# Altium schematic symbol library MF_IC_Power.SCHLIB: 7 symbols
Pins are listed as number, name and electrical type; pins without a type are passive.

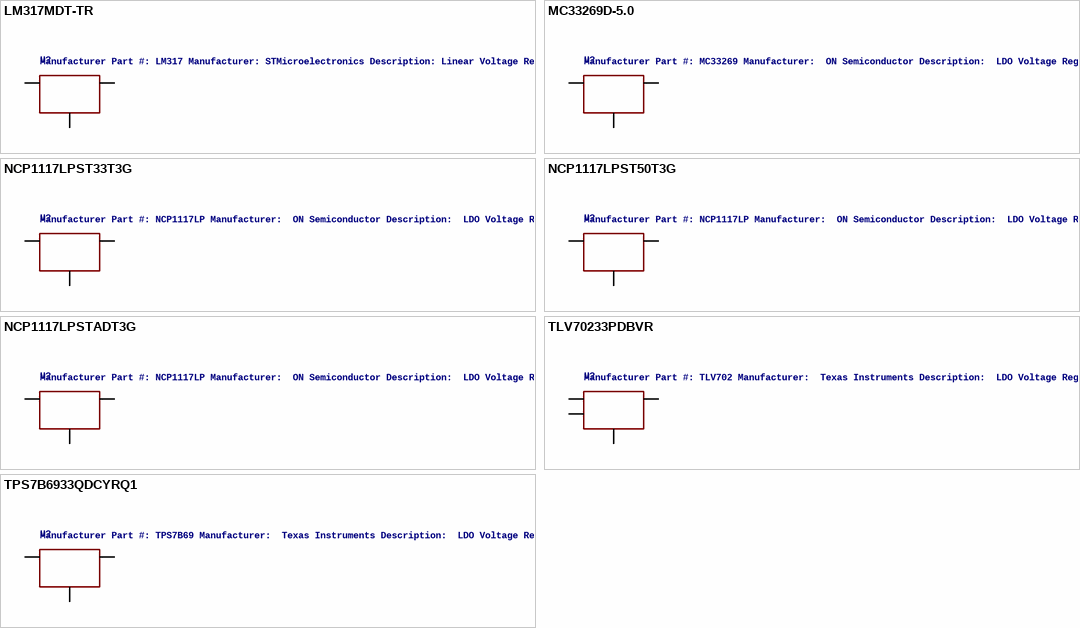
[diagram p0: symbols LM317MDT-TR to TPS7B6933QDCYRQ1]

## LM317MDT-TR
designator U?, comment Manufacturer Part #: LM317 Manufacturer: STMicroelectronics Description: Linear Voltage Regulators 1.2-37V Adj Positive
HOUSEPART: NO; MPN: LM317MDT-TR; GateName_1: G$1; SymbolName_1: VOLTAGE_REGULATOR; DeviceName: MDT-TR; POPULATE: 1; LibraryName: MF_IC_Power; DeviceSetName: LM317; URL: http://www.st.com/content/ccc/resource/technical/document/datasheet/8e/b2/ea/56/ad/8c/43/d8/CD00000549.pdf/files/CD00000549.pdf/jcr:content/translations/en.CD00000549.pdf
footprint TO-252-3
pins: 1 GND/ADJ, 2 VIN, PAD VOUT

## MC33269D-5.0
designator U?, comment Manufacturer Part #: MC33269 Manufacturer:  ON Semiconductor Description:  LDO Voltage Regulators
HOUSEPART: NO; MPN: MC33269D-5.0; GateName_1: G$1; SymbolName_1: VOLTAGE_REGULATOR; DeviceName: D-5.0; POPULATE: 1; LibraryName: MF_IC_Power; DeviceSetName: MC33269; URL: http://www.onsemi.com/pub_link/Collateral/MC33269-D.PDF
footprint SOIC8
pins: P$1 GND/ADJ, P$2 P$3 P$6 P$7 VOUT, P$4 VIN

## NCP1117LPST33T3G
designator U?, comment Manufacturer Part #: NCP1117LP Manufacturer:  ON Semiconductor Description:  LDO Voltage Regulators
HOUSEPART: NO; MPN: NCP1117LPST33T3G; GateName_1: G$1; SymbolName_1: VOLTAGE_REGULATOR; DeviceName: ST33T3G; POPULATE: 1; LibraryName: MF_IC_Power; DeviceSetName: NCP1117LP; URL: http://www.onsemi.com/pub_link/Collateral/NCP1117LP-D.PDF
footprint SOT-223-3
pins: P$1 P$3 VOUT, P$2 GND/ADJ, P$4 VIN

## NCP1117LPST50T3G
designator U?, comment Manufacturer Part #: NCP1117LP Manufacturer:  ON Semiconductor Description:  LDO Voltage Regulators
HOUSEPART: NO; MPN: NCP1117LPST50T3G; GateName_1: G$1; SymbolName_1: VOLTAGE_REGULATOR; DeviceName: ST50T3G; POPULATE: 1; LibraryName: MF_IC_Power; DeviceSetName: NCP1117LP; URL: http://www.onsemi.com/pub_link/Collateral/NCP1117LP-D.PDF
footprint SOT-223-3
pins: P$1 P$3 VOUT, P$2 GND/ADJ, P$4 VIN

## NCP1117LPSTADT3G
designator U?, comment Manufacturer Part #: NCP1117LP Manufacturer:  ON Semiconductor Description:  LDO Voltage Regulators
HOUSEPART: NO; MPN: NCP1117LPSTADT3G; GateName_1: G$1; SymbolName_1: VOLTAGE_REGULATOR; DeviceName: STADT3G; POPULATE: 1; LibraryName: MF_IC_Power; DeviceSetName: NCP1117LP; URL: http://www.onsemi.com/pub_link/Collateral/NCP1117LP-D.PDF
footprint SOT-223-3
pins: P$1 P$3 VOUT, P$2 GND/ADJ, P$4 VIN

## TLV70233PDBVR
designator U?, comment Manufacturer Part #: TLV702 Manufacturer:  Texas Instruments Description:  LDO Voltage Regulators
HOUSEPART: YES; MPN: MF-REG-SOT235-3.3V-300mA; GateName_1: G$1; SymbolName_1: VOLTAGE_REGULATOR_EN; DeviceName: 33PDBVR; POPULATE: 1; LibraryName: MF_IC_Power; DeviceSetName: TLV702; URL: https://factory.macrofab.com/part/MF-REG-SOT235-3.3V-300mA
footprint SOT-23-5
pins: P$1 VIN, P$2 GND/ADJ, P$3 EN, P$5 VOUT

## TPS7B6933QDCYRQ1
designator U?, comment Manufacturer Part #: TPS7B69 Manufacturer:  Texas Instruments Description:  LDO Voltage Regulators
HOUSEPART: NO; MPN: TPS7B6933QDCYRQ1; GateName_1: G$1; SymbolName_1: VOLTAGE_REGULATOR; DeviceName: 33QDCYRQ1; POPULATE: 1; LibraryName: MF_IC_Power; DeviceSetName: TPS7B69; URL: http://www.ti.com/lit/ds/symlink/tps7b6933-q1.pdf
footprint SOT-23-5
pins: P$1 VIN, P$3 P$4 GND/ADJ, P$5 VOUT